# Altium schematic symbol library Schlib1.SchLib: 2 symbols
Pins are listed as number, name and electrical type; pins without a type are passive.

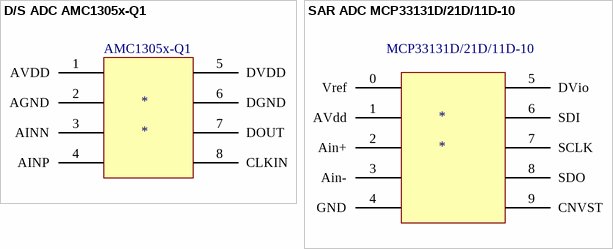
[diagram p0: symbols D/S ADC AMC1305x-Q1 to SAR ADC MCP33131D/21D/11D-10]

## D/S ADC AMC1305x-Q1
designator *
pins: 1 AVDD, 2 AGND, 3 AINN, 4 AINP, 5 DVDD, 6 DGND, 7 DOUT, 8 CLKIN
text: AMC1305x-Q1

## SAR ADC MCP33131D/21D/11D-10
designator *
pins: 0 Vref, 1 AVdd, 2 Ain+, 3 Ain-, 4 GND, 5 DVio, 6 SDI, 7 SCLK, 8 SDO, 9 CNVST
text: MCP33131D/21D/11D-10